# EAGLE library part SHT3 (library IC & Transistor)
SHT3x-DIS Humidity and Temperature Sensor Created by: Wai Weng
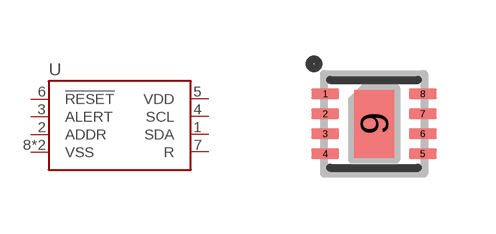
[diagram p60: symbol with the pads of SHT3X-DIS; footprint SHT3X-DIS]

Designator prefix U

## SHT30-DIS (DESC: Humidity & Temperature Sensor; MF: Sensirion; MPN: SHT30-DIS)  [SHT3X-DIS]
1  SDA
2  ADDR
3  ALERT
4  SCL
5  VDD
6  !RESET
7  R
8  VSS
9  VSS

## Footprint SHT3X-DIS (pad centres in mm)
SHT3x-DIS Humidity and Temperature Sensor Created by: Wai Weng
smd 0.7 x 0.25: 1 -1.22,0.75; 2 -1.22,0.25; 3 -1.22,-0.25; 4 -1.22,-0.75; 5 1.22,-0.75; 6 1.22,-0.25; 7 1.22,0.25; 8 1.22,0.75
smd 1 x 1.7: 9 0,0